# Altium schematic symbol library AO7800.SchLib: 1 symbol
Pins are listed as number, name and electrical type; pins without a type are passive.

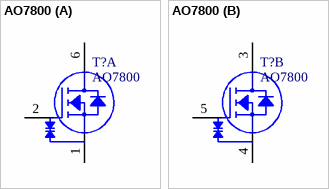
[diagram p0: symbol AO7800]

## AO7800
designator T?
part A pins: 1 SOURCE1, 2 GATE1, 6 DRAIN1
part B pins: 3 DRAIN2, 4 SOURCE2, 5 GATE2